# EAGLE library part 74HC4040 (library 000phys605parts)
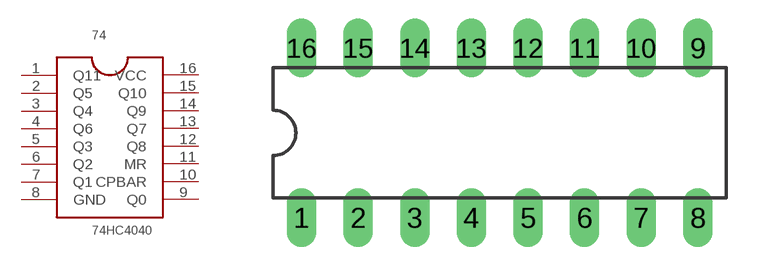
[diagram p2: symbol with the pads of DIL16; footprint DIL16]

Designator prefix 74

## 74HC4040  [DIL16]
1  Q11
2  Q5
3  Q4
4  Q6
5  Q3
6  Q2
7  Q1
8  GND  out
9  Q0
10  CPBAR
11  MR
12  Q8
13  Q7
14  Q9
15  Q10
16  VCC  in

## Footprint DIL16 (pad centres in mm)
Dual In Line Package
drill 0.813 long: 1 -8.89,-3.81; 2 -6.35,-3.81; 3 -3.81,-3.81; 4 -1.27,-3.81; 5 1.27,-3.81; 6 3.81,-3.81; 7 6.35,-3.81; 8 8.89,-3.81; 9 8.89,3.81; 10 6.35,3.81; 11 3.81,3.81; 12 1.27,3.81; 13 -1.27,3.81; 14 -3.81,3.81; 15 -6.35,3.81; 16 -8.89,3.81